# Altium schematic symbol library TI Power Management DC-DC Controller (External Switch).SchLib: 349 symbols (part 6 of 26)
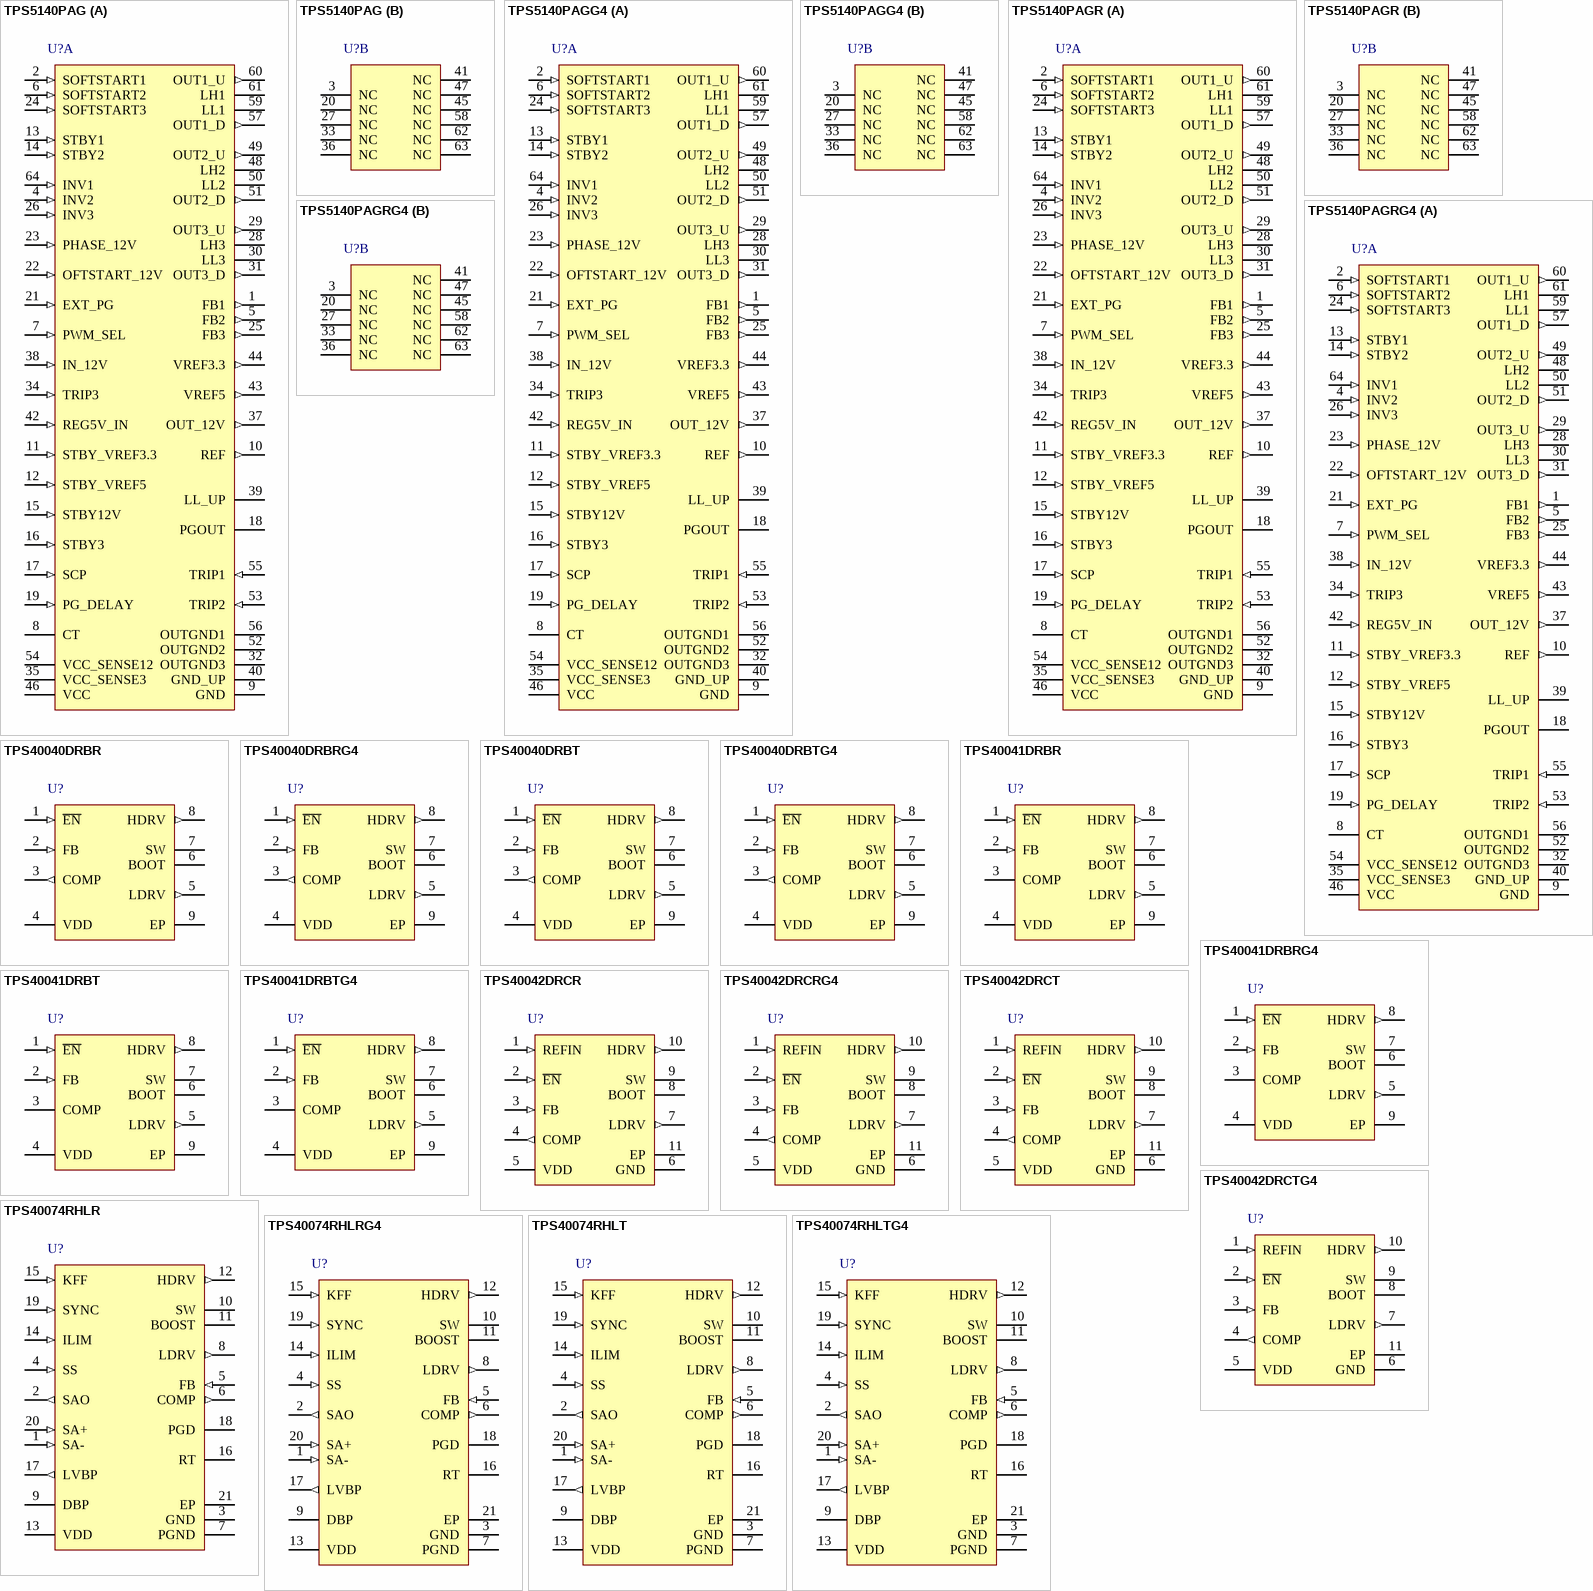
[diagram p19: symbols TPS5140PAG to TPS40074RHLTG4]

## TPS5140PAGRG4
designator U?
Quad Output (3 Buck, 1 Boost) High Efficiency DC / DC Controller for Notebook PC Power, 75 % Duty Cycle, 4.5 to 28 V, -20 to 85 degC, 64-pin TQFP (PAG), Green (RoHS & no Sb/Br); Manufacturer: Texas Instruments; PartNumber: TPS5140PAGRG4; Duty Cycle(Max)(%): 75; Iout(Max)(A): 20; Regulated Outputs(#): 4; SubFamily: Multiple-Output Switching Controller; Switching Frequency(Max)(kHz): 350; Synchronous Rectification: TRUE; Vin(Max)(V): 28; Vin(Min)(V): 4.5; Vout(Max)(V): 26; Vout(Min)(V): 1.2; DatasheetVersion: SLVS305A; PackageVersion: Dec-1996; PackageReference: PAG64; PackageDescription: 64-Pin Thin Quad Flat Pack 0.5 mm Pitch; Supplier 1: Digi-Key; Supplier Part Number 1: TPS5140PAGRG4-ND; Eco-Plan: Green (RoHS & no Sb/Br); Iout2(A): 20; Topology: Buck; Vout2(Max)(V): 26; Vout2(Min)(V): 1.2; Mounting Technology: Surface Mount; Code_JEDEC: MS-026; ComponentLink1Description: Datasheet; ComponentLink1URL: http://www.ti.com/general/docs/lit/getliterature.tsp?genericPartNumber=TPS5140&fileType=pdf; ComponentLink2Description: Package Specification; ComponentLink2URL: http://www.ti.com/litv/pdf/mtqf006a
footprint PAG64_N (Thin QFP, 64-Leads, Body 10x10mm, Pitch 0.5mm, IPC Medium Density)
footprint PAG64_L (Thin QFP, 64-Leads, Body 10x10mm, Pitch 0.5mm, IPC High Density)
footprint PAG64_M (Thin QFP, 64-Leads, Body 10x10mm, Pitch 0.5mm, IPC Low Density)
part A pins: 1 FB1 (out) "Feedback output of CH1 error amplifier.", 2 SOFTSTART1 (in) "External capacitor from SOFTSTART1 to GND for CH1 soft starts control.", 4 INV2 (in) "Inverting input of CH1 error amplifier, skip comparator and OVP2/UVP2, PG comparator.", 5 FB2 (out) "Feedback output of CH2 error amplifier.", 6 SOFTSTART2 (in) "External capacitor from SOFTSTART2 to GND for CH2 soft starts control.", 7 PWM_SEL (in) "PWM or auto PWM/SKIP modes select. L: PWM fixed  H: auto PWM/SKIP", 8 CT "External capacitor from Ct to GND used for adjusting the triangle oscillator.", 9 GND (power) "Control GND.", 10 REF (out) "1.185 V reference voltage output.", 11 STBY_VREF3.3 (in) "Stand by control for 3.3-V linear regulator.", 12 STBY_VREF5 (in) "Stand by control for 5-V linear regulator.", 13 STBY1 (in) "Stand by control for CH1.", 14 STBY2 (in) "Stand by control for CH2.", 15 STBY12V (in) "Stand by control for 12-V boost converter.", 16 STBY3 (in) "Stand by control for CH3.", 17 SCP (in) "Short circuit protection terminal. An external capacitor is connected between SCP and GND to set the SCP enable time up.", 18 PGOUT (oc) "Open drain output for power good signal.", 19 PG_DELAY (in) "Programmable delay for power good. Connect to the external capacitor for timer delay.", 21 EXT_PG (in) "External power good signal input.", 22 OFTSTART_12V (in) "External capacitor from SOFTSTART_12V to GND for CH4 (12-V boost converter) soft starts control.", 23 PHASE_12V (in) "Phase compensation for the12-V boost converter. Connect to an external capacitor. But normally it is not connected.", 24 SOFTSTART3 (in) "External capacitor from SOFTSTART3 to GND for CH3 soft starts control.", 25 FB3 (out) "Feedback output of CH3 error amplifier.", 26 INV3 (in) "Inverting input of CH1 error amplifier, skip comparator and OVP3/UVP3, PG comparator.", 28 LH3 (power) "Bootstrap capacitor connection for CH3 high side gate drive.", 29 OUT3_U (out) "Gate drive output for CH3 high side switching FETs.", 30 LL3 (power) "Bootstrap low for CH3 high side gate driving return and output current protection. Connect to the junction of the high side and low side FETs for floating drive configuration.", 31 OUT3_D (out) "Gate drive output for CH3 low side gate drive.", 32 OUTGND3 (power) "Ground for CH3 FETs drivers. It is connected to the one of current limiting comparator input.", 34 TRIP3 (in) "External resistor connection for CH3 output current protection control.", 35 VCC_SENSE3 (power) "Supply voltage input and input voltage terminal for CH3 output current sense.", 37 OUT_12V (out) "Output of PMOS switch for 12-V boost output. Connect to the output capacitor for 12-V boost output.", 38 IN_12V (in) "Input of PMOS switch for 12-V boost output. Connecting to cathode of the external Schottky diode.", 39 LL_UP (oc) "Open drain output of internal NMOS switch for 12-V boost converter. Connect between external inductor and the anode of the schottky diode.", 40 GND_UP (power) "Ground for 12-V boost converter.", 42 REG5V_IN (in) "External 5 V input.", 43 VREF5 (out) "5-V linear regulator output.", 44 VREF3.3 (out) "3.3-V linear regulator output.", 46 VCC (power) "Supply voltage input.", 48 LH2 (power) "Bootstrap capacitor connection for CH2 high side gate drive.", 49 OUT2_U (out) "Gate drive output for CH2 high side switching FETs.", 50 LL2 (power) "Bootstrap low for CH2 high side gate driving return and output current protection. Connect to the junction of the high side and low side FETs for floating drive configuration.", 51 OUT2_D (out) "Gate drive output for CH2 low side gate drive.", 52 OUTGND2 (power) "Ground for CH2 FETs drivers. It is connected to one of current limiting comparator input.", 53 TRIP2 (in) "External resistor connection for CH2 output current protection control.", 54 VCC_SENSE12 (power) "Supply voltage input and input voltage terminal for CH1/2 output current sense.", 55 TRIP1 (in) "External resistor connection for CH1 output current protection control.", 56 OUTGND1 (power) "Ground for CH1 FETs drivers. It is connected to one of the current limiting comparator input.", 57 OUT1_D (out) "Gate drive output for CH1 low side gate drive.", 59 LL1 (power) "Bootstrap low for CH1 high side gate driving return and output current protection. Connect to the junction of the high side and low side FETs for floating drive configuration.", 60 OUT1_U (out) "Gate drive output for CH1 high side switching FETs.", 61 LH1 (power) "Bootstrap capacitor connection for CH1 high side gate drive.", 64 INV1 (in) "Inverting input of CH1 error amplifier, skip comparator and OVP1/UVP1, PG comparator."
part B pins: 3 NC "No connect.", 20 NC "No connect.", 27 NC "No connect.", 33 NC "No connect.", 36 NC "No connect.", 41 NC "No connect.", 45 NC "No connect.", 47 NC "No connect.", 58 NC "No connect.", 62 NC "No connect.", 63 NC "No connect."

## TPS40040DRBR
designator U?
Low Pin Count, Low Vin Synchronous Buck DC / DC Controller, 90 % Duty Cycle, 2.25 to 5.5 V, -40 to 85 degC, 8-pin SON (DRB), Green (RoHS & no Sb/Br); Manufacturer: Texas Instruments; PartNumber: TPS40040DRBR; Duty Cycle(Max)(%): 90; Iout(Max)(A): 15; Regulated Outputs(#): 1; SubFamily: Step-Down Controller; Switching Frequency(Max)(kHz): 300; Synchronous Rectification: TRUE; Vin(Max)(V): 5.5; Vin(Min)(V): 2.25; Vout(Max)(V): 4.95; Vout(Min)(V): 0.6; DatasheetVersion: SLUS700D; PackageVersion: revK, Jun-2012; PackageReference: DRB8-2400X1650TP; PackageDescription: 8-Pin Plastic Small Outline No-Lead, 3 x 3 x 1 mm Body, 0.65 mm Pitch, Exposed Pad; Supplier 1: Digi-Key; Supplier Part Number 1: TPS40040DRBR-ND; Eco-Plan: Green (RoHS & no Sb/Br); Topology: Buck; Mounting Technology: Surface Mount; ComponentLink1Description: Datasheet; ComponentLink1URL: http://www.ti.com/general/docs/lit/getliterature.tsp?genericPartNumber=TPS40040&fileType=pdf; ComponentLink2Description: Package Specification; ComponentLink2URL: http://www.ti.com/litv/pdf/mpds118h
footprint DRB8-2400X1650TP (SON, 8-Leads, Body 3x3mm, Pitch 0.65mm, Thermal Pad 2.4x1.65mm, TI Recommended)
pins: 1 ~{EN} (in) "Active low enable input allows ON/OFF operation of the controller. If power is applied to the TPS40040/1 while the E\N\ pin is allowed to float high, the TPS40040/1 remains disabled (both external switches are held OFF). (See Datasheet)", 2 FB (in) "Inverting input of the error amplifier. In closed loop operation, the voltage at this pin is at the internal reference level of 600 mV. A series resistor divider from the converter output to ground, with the center (See Datasheet)", 3 COMP (out) "Output of the error amplifier and connection node for loop feedback components. The voltage at this pin determines the duty cycle for the PWM. Optionally, a resistor from this pin to ground is used to determine the voltage (See Datasheet)", 4 VDD (power) "Power input to the device. This pin should be locally bypassed to GND with a low ESR ceramic capacitor of 1 uF or greater.", 5 LDRV (out) "Gate drive output for the low-side synchronous rectifier (SR) N-channel MOSFET.", 6 BOOT (power) "Input (bootstrapped) supply to the high-side gate driver for PWM enabling the gate of the high side FET to be driven above the input supply rail. Connect a ceramic capacitor from this pin to SW. This capacitor is charged (See Datasheet)", 7 SW (power) "Connection to the switched node of the converter and the power return for the upper gate driver. There should be a high current return path from the source of the upper MOSFET to this pin. It is also used by the adaptive (See Datasheet)", 8 HDRV (out) "This is the gate drive output for the high side N-channel MOSFET switch for PWM. It is referenced to SW and is bootstrapped for enhancement of the high-side switch.", 9 EP (power) "Ground connection to the device. This is also the thermal pad used to conduct heat from the device. This connection serves a twofold purpose. The first is to provide an electrical ground connection for the device. The second (See Datasheet)"

## TPS40040DRBRG4
designator U?
Low Pin Count, Low Vin Synchronous Buck DC / DC Controller, 90 % Duty Cycle, 2.25 to 5.5 V, -40 to 85 degC, 8-pin SON (DRB), Green (RoHS & no Sb/Br); Manufacturer: Texas Instruments; PartNumber: TPS40040DRBRG4; Duty Cycle(Max)(%): 90; Iout(Max)(A): 15; Regulated Outputs(#): 1; SubFamily: Step-Down Controller; Switching Frequency(Max)(kHz): 300; Synchronous Rectification: TRUE; Vin(Max)(V): 5.5; Vin(Min)(V): 2.25; Vout(Max)(V): 4.95; Vout(Min)(V): 0.6; DatasheetVersion: SLUS700D; PackageVersion: revK, Jun-2012; PackageReference: DRB8-2400X1650TP; PackageDescription: 8-Pin Plastic Small Outline No-Lead, 3 x 3 x 1 mm Body, 0.65 mm Pitch, Exposed Pad; Supplier 1: Digi-Key; Supplier Part Number 1: TPS40040DRBRG4-ND; Eco-Plan: Green (RoHS & no Sb/Br); Topology: Buck; Mounting Technology: Surface Mount; ComponentLink1Description: Datasheet; ComponentLink1URL: http://www.ti.com/general/docs/lit/getliterature.tsp?genericPartNumber=TPS40040&fileType=pdf; ComponentLink2Description: Package Specification; ComponentLink2URL: http://www.ti.com/litv/pdf/mpds118h
footprint DRB8-2400X1650TP (SON, 8-Leads, Body 3x3mm, Pitch 0.65mm, Thermal Pad 2.4x1.65mm, TI Recommended)
pins: 1 ~{EN} (in) "Active low enable input allows ON/OFF operation of the controller. If power is applied to the TPS40040/1 while the E\N\ pin is allowed to float high, the TPS40040/1 remains disabled (both external switches are held OFF). (See Datasheet)", 2 FB (in) "Inverting input of the error amplifier. In closed loop operation, the voltage at this pin is at the internal reference level of 600 mV. A series resistor divider from the converter output to ground, with the center (See Datasheet)", 3 COMP (out) "Output of the error amplifier and connection node for loop feedback components. The voltage at this pin determines the duty cycle for the PWM. Optionally, a resistor from this pin to ground is used to determine the voltage (See Datasheet)", 4 VDD (power) "Power input to the device. This pin should be locally bypassed to GND with a low ESR ceramic capacitor of 1 uF or greater.", 5 LDRV (out) "Gate drive output for the low-side synchronous rectifier (SR) N-channel MOSFET.", 6 BOOT (power) "Input (bootstrapped) supply to the high-side gate driver for PWM enabling the gate of the high side FET to be driven above the input supply rail. Connect a ceramic capacitor from this pin to SW. This capacitor is charged (See Datasheet)", 7 SW (power) "Connection to the switched node of the converter and the power return for the upper gate driver. There should be a high current return path from the source of the upper MOSFET to this pin. It is also used by the adaptive (See Datasheet)", 8 HDRV (out) "This is the gate drive output for the high side N-channel MOSFET switch for PWM. It is referenced to SW and is bootstrapped for enhancement of the high-side switch.", 9 EP (power) "Ground connection to the device. This is also the thermal pad used to conduct heat from the device. This connection serves a twofold purpose. The first is to provide an electrical ground connection for the device. The second (See Datasheet)"

## TPS40040DRBT
designator U?
Low Pin Count, Low Vin Synchronous Buck DC / DC Controller, 90 % Duty Cycle, 2.25 to 5.5 V, -40 to 85 degC, 8-pin SON (DRB), Green (RoHS & no Sb/Br); Manufacturer: Texas Instruments; PartNumber: TPS40040DRBT; Duty Cycle(Max)(%): 90; Iout(Max)(A): 15; Regulated Outputs(#): 1; SubFamily: Step-Down Controller; Switching Frequency(Max)(kHz): 300; Synchronous Rectification: TRUE; Vin(Max)(V): 5.5; Vin(Min)(V): 2.25; Vout(Max)(V): 4.95; Vout(Min)(V): 0.6; DatasheetVersion: SLUS700D; PackageVersion: revK, Jun-2012; PackageReference: DRB8-2400X1650TP; PackageDescription: 8-Pin Plastic Small Outline No-Lead, 3 x 3 x 1 mm Body, 0.65 mm Pitch, Exposed Pad; Supplier 1: Digi-Key; Supplier Part Number 1: 296-19638-2-ND; Eco-Plan: Green (RoHS & no Sb/Br); Topology: Buck; Mounting Technology: Surface Mount; ComponentLink1Description: Datasheet; ComponentLink1URL: http://www.ti.com/general/docs/lit/getliterature.tsp?genericPartNumber=TPS40040&fileType=pdf; ComponentLink2Description: Package Specification; ComponentLink2URL: http://www.ti.com/litv/pdf/mpds118h
footprint DRB8-2400X1650TP (SON, 8-Leads, Body 3x3mm, Pitch 0.65mm, Thermal Pad 2.4x1.65mm, TI Recommended)
pins: 1 ~{EN} (in) "Active low enable input allows ON/OFF operation of the controller. If power is applied to the TPS40040/1 while the E\N\ pin is allowed to float high, the TPS40040/1 remains disabled (both external switches are held OFF). (See Datasheet)", 2 FB (in) "Inverting input of the error amplifier. In closed loop operation, the voltage at this pin is at the internal reference level of 600 mV. A series resistor divider from the converter output to ground, with the center (See Datasheet)", 3 COMP (out) "Output of the error amplifier and connection node for loop feedback components. The voltage at this pin determines the duty cycle for the PWM. Optionally, a resistor from this pin to ground is used to determine the voltage (See Datasheet)", 4 VDD (power) "Power input to the device. This pin should be locally bypassed to GND with a low ESR ceramic capacitor of 1 uF or greater.", 5 LDRV (out) "Gate drive output for the low-side synchronous rectifier (SR) N-channel MOSFET.", 6 BOOT (power) "Input (bootstrapped) supply to the high-side gate driver for PWM enabling the gate of the high side FET to be driven above the input supply rail. Connect a ceramic capacitor from this pin to SW. This capacitor is charged (See Datasheet)", 7 SW (power) "Connection to the switched node of the converter and the power return for the upper gate driver. There should be a high current return path from the source of the upper MOSFET to this pin. It is also used by the adaptive (See Datasheet)", 8 HDRV (out) "This is the gate drive output for the high side N-channel MOSFET switch for PWM. It is referenced to SW and is bootstrapped for enhancement of the high-side switch.", 9 EP (power) "Ground connection to the device. This is also the thermal pad used to conduct heat from the device. This connection serves a twofold purpose. The first is to provide an electrical ground connection for the device. The second (See Datasheet)"

## TPS40040DRBTG4
designator U?
Low Pin Count, Low Vin Synchronous Buck DC / DC Controller, 90 % Duty Cycle, 2.25 to 5.5 V, -40 to 85 degC, 8-pin SON (DRB), Green (RoHS & no Sb/Br); Manufacturer: Texas Instruments; PartNumber: TPS40040DRBTG4; Duty Cycle(Max)(%): 90; Iout(Max)(A): 15; Regulated Outputs(#): 1; SubFamily: Step-Down Controller; Switching Frequency(Max)(kHz): 300; Synchronous Rectification: TRUE; Vin(Max)(V): 5.5; Vin(Min)(V): 2.25; Vout(Max)(V): 4.95; Vout(Min)(V): 0.6; DatasheetVersion: SLUS700D; PackageVersion: revK, Jun-2012; PackageReference: DRB8-2400X1650TP; PackageDescription: 8-Pin Plastic Small Outline No-Lead, 3 x 3 x 1 mm Body, 0.65 mm Pitch, Exposed Pad; Supplier 1: Digi-Key; Supplier Part Number 1: TPS40040DRBTG4-ND; Eco-Plan: Green (RoHS & no Sb/Br); Topology: Buck; Mounting Technology: Surface Mount; ComponentLink1Description: Datasheet; ComponentLink1URL: http://www.ti.com/general/docs/lit/getliterature.tsp?genericPartNumber=TPS40040&fileType=pdf; ComponentLink2Description: Package Specification; ComponentLink2URL: http://www.ti.com/litv/pdf/mpds118h
footprint DRB8-2400X1650TP (SON, 8-Leads, Body 3x3mm, Pitch 0.65mm, Thermal Pad 2.4x1.65mm, TI Recommended)
pins: 1 ~{EN} (in) "Active low enable input allows ON/OFF operation of the controller. If power is applied to the TPS40040/1 while the E\N\ pin is allowed to float high, the TPS40040/1 remains disabled (both external switches are held OFF). (See Datasheet)", 2 FB (in) "Inverting input of the error amplifier. In closed loop operation, the voltage at this pin is at the internal reference level of 600 mV. A series resistor divider from the converter output to ground, with the center (See Datasheet)", 3 COMP (out) "Output of the error amplifier and connection node for loop feedback components. The voltage at this pin determines the duty cycle for the PWM. Optionally, a resistor from this pin to ground is used to determine the voltage (See Datasheet)", 4 VDD (power) "Power input to the device. This pin should be locally bypassed to GND with a low ESR ceramic capacitor of 1 uF or greater.", 5 LDRV (out) "Gate drive output for the low-side synchronous rectifier (SR) N-channel MOSFET.", 6 BOOT (power) "Input (bootstrapped) supply to the high-side gate driver for PWM enabling the gate of the high side FET to be driven above the input supply rail. Connect a ceramic capacitor from this pin to SW. This capacitor is charged (See Datasheet)", 7 SW (power) "Connection to the switched node of the converter and the power return for the upper gate driver. There should be a high current return path from the source of the upper MOSFET to this pin. It is also used by the adaptive (See Datasheet)", 8 HDRV (out) "This is the gate drive output for the high side N-channel MOSFET switch for PWM. It is referenced to SW and is bootstrapped for enhancement of the high-side switch.", 9 EP (power) "Ground connection to the device. This is also the thermal pad used to conduct heat from the device. This connection serves a twofold purpose. The first is to provide an electrical ground connection for the device. The second (See Datasheet)"

## TPS40041DRBR
designator U?
Low Pin Count, Low Vin Synchronous Buck DC / DC Controller, 88 % Duty Cycle, 2.25 to 5.5 V, -40 to 85 degC, 8-pin SON (DRB), Green (RoHS & no Sb/Br); Manufacturer: Texas Instruments; PartNumber: TPS40041DRBR; Duty Cycle(Max)(%): 88; Iout(Max)(A): 15; Regulated Outputs(#): 1; SubFamily: Step-Down Controller; Switching Frequency(Max)(kHz): 600; Synchronous Rectification: TRUE; Vin(Max)(V): 5.5; Vin(Min)(V): 2.25; Vout(Max)(V): 4.84; Vout(Min)(V): 0.6; DatasheetVersion: SLUS700D; PackageVersion: revK, Jun-2012; PackageReference: DRB8-2400X1650TP; PackageDescription: 8-Pin Plastic Small Outline No-Lead, 3 x 3 x 1 mm Body, 0.65 mm Pitch, Exposed Pad; Supplier 1: Digi-Key; Supplier Part Number 1: 296-19639-2-ND; Eco-Plan: Green (RoHS & no Sb/Br); Topology: Buck; Mounting Technology: Surface Mount; ComponentLink1Description: Datasheet; ComponentLink1URL: http://www.ti.com/general/docs/lit/getliterature.tsp?genericPartNumber=TPS40041&fileType=pdf; ComponentLink2Description: Package Specification; ComponentLink2URL: http://www.ti.com/litv/pdf/mpds118h
footprint DRB8-2400X1650TP (SON, 8-Leads, Body 3x3mm, Pitch 0.65mm, Thermal Pad 2.4x1.65mm, TI Recommended)
pins: 1 ~{EN} (in) "Active low enable input allows ON/OFF operation of the controller. If power is applied to the TPS40040/1 while the E\N\ pin is allowed to float high, the TPS40040/1 remains disabled (both external switches are held OFF). (See Datasheet)", 2 FB (in) "Inverting input of the error amplifier. In closed loop operation, the voltage at this pin is at the internal reference level of 600 mV. A series resistor divider from the converter output to ground, with the center (See Datasheet)", 3 COMP "Output of the error amplifier and connection node for loop feedback components. The voltage at this pin determines the duty cycle for the PWM. Optionally, a resistor from this pin to ground is used to determine the voltage (See Datasheet)", 4 VDD (power) "Power input to the device. This pin should be locally bypassed to GND with a low ESR ceramic capacitor of 1 mF or greater.", 5 LDRV (out) "Gate drive output for the low-side synchronous rectifier (SR) N-channel MOSFET.", 6 BOOT (power) "Input (bootstrapped) supply to the high-side gate driver for PWM enabling the gate of the high side FET to be driven above the input supply rail. Connect a ceramic capacitor from this pin to SW. This capacitor is charged (See Datasheet)", 7 SW (power) "Connection to the switched node of the converter and the power return for the upper gate driver. There should be a high current return path from the source of the upper MOSFET to this pin. It is also used by the adaptive (See Datasheet)", 8 HDRV (out) "This is the gate drive output for the high side N-channel MOSFET switch for PWM. It is referenced to SW and is bootstrapped for enhancement of the high-side switch.", 9 EP (power) "Ground connection to the device. This is also the thermal pad used to conduct heat from the device. This connection serves a twofold purpose. The first is to provide an electrical ground GND Thermal Pad connection for the (See Datasheet)"

## TPS40041DRBRG4
designator U?
Low Pin Count, Low Vin Synchronous Buck DC / DC Controller, 88 % Duty Cycle, 2.25 to 5.5 V, -40 to 85 degC, 8-pin SON (DRB), Green (RoHS & no Sb/Br); Manufacturer: Texas Instruments; PartNumber: TPS40041DRBRG4; Duty Cycle(Max)(%): 88; Iout(Max)(A): 15; Regulated Outputs(#): 1; SubFamily: Step-Down Controller; Switching Frequency(Max)(kHz): 600; Synchronous Rectification: TRUE; Vin(Max)(V): 5.5; Vin(Min)(V): 2.25; Vout(Max)(V): 4.84; Vout(Min)(V): 0.6; DatasheetVersion: SLUS700D; PackageVersion: revK, Jun-2012; PackageReference: DRB8-2400X1650TP; PackageDescription: 8-Pin Plastic Small Outline No-Lead, 3 x 3 x 1 mm Body, 0.65 mm Pitch, Exposed Pad; Supplier 1: Digi-Key; Supplier Part Number 1: TPS40041DRBRG4-ND; Eco-Plan: Green (RoHS & no Sb/Br); Topology: Buck; Mounting Technology: Surface Mount; ComponentLink1Description: Datasheet; ComponentLink1URL: http://www.ti.com/general/docs/lit/getliterature.tsp?genericPartNumber=TPS40041&fileType=pdf; ComponentLink2Description: Package Specification; ComponentLink2URL: http://www.ti.com/litv/pdf/mpds118h
footprint DRB8-2400X1650TP (SON, 8-Leads, Body 3x3mm, Pitch 0.65mm, Thermal Pad 2.4x1.65mm, TI Recommended)
pins: 1 ~{EN} (in) "Active low enable input allows ON/OFF operation of the controller. If power is applied to the TPS40040/1 while the E\N\ pin is allowed to float high, the TPS40040/1 remains disabled (both external switches are held OFF). (See Datasheet)", 2 FB (in) "Inverting input of the error amplifier. In closed loop operation, the voltage at this pin is at the internal reference level of 600 mV. A series resistor divider from the converter output to ground, with the center (See Datasheet)", 3 COMP "Output of the error amplifier and connection node for loop feedback components. The voltage at this pin determines the duty cycle for the PWM. Optionally, a resistor from this pin to ground is used to determine the voltage (See Datasheet)", 4 VDD (power) "Power input to the device. This pin should be locally bypassed to GND with a low ESR ceramic capacitor of 1 mF or greater.", 5 LDRV (out) "Gate drive output for the low-side synchronous rectifier (SR) N-channel MOSFET.", 6 BOOT (power) "Input (bootstrapped) supply to the high-side gate driver for PWM enabling the gate of the high side FET to be driven above the input supply rail. Connect a ceramic capacitor from this pin to SW. This capacitor is charged (See Datasheet)", 7 SW (power) "Connection to the switched node of the converter and the power return for the upper gate driver. There should be a high current return path from the source of the upper MOSFET to this pin. It is also used by the adaptive (See Datasheet)", 8 HDRV (out) "This is the gate drive output for the high side N-channel MOSFET switch for PWM. It is referenced to SW and is bootstrapped for enhancement of the high-side switch.", 9 EP (power) "Ground connection to the device. This is also the thermal pad used to conduct heat from the device. This connection serves a twofold purpose. The first is to provide an electrical ground GND Thermal Pad connection for the (See Datasheet)"

## TPS40041DRBT
designator U?
Low Pin Count, Low Vin Synchronous Buck DC / DC Controller, 88 % Duty Cycle, 2.25 to 5.5 V, -40 to 85 degC, 8-pin SON (DRB), Green (RoHS & no Sb/Br); Manufacturer: Texas Instruments; PartNumber: TPS40041DRBT; Duty Cycle(Max)(%): 88; Iout(Max)(A): 15; Regulated Outputs(#): 1; SubFamily: Step-Down Controller; Switching Frequency(Max)(kHz): 600; Synchronous Rectification: TRUE; Vin(Max)(V): 5.5; Vin(Min)(V): 2.25; Vout(Max)(V): 4.84; Vout(Min)(V): 0.6; DatasheetVersion: SLUS700D; PackageVersion: revK, Jun-2012; PackageReference: DRB8-2400X1650TP; PackageDescription: 8-Pin Plastic Small Outline No-Lead, 3 x 3 x 1 mm Body, 0.65 mm Pitch, Exposed Pad; Supplier 1: Digi-Key; Supplier Part Number 1: 296-26960-2-ND; Eco-Plan: Green (RoHS & no Sb/Br); Topology: Buck; Mounting Technology: Surface Mount; ComponentLink1Description: Datasheet; ComponentLink1URL: http://www.ti.com/general/docs/lit/getliterature.tsp?genericPartNumber=TPS40041&fileType=pdf; ComponentLink2Description: Package Specification; ComponentLink2URL: http://www.ti.com/litv/pdf/mpds118h
footprint DRB8-2400X1650TP (SON, 8-Leads, Body 3x3mm, Pitch 0.65mm, Thermal Pad 2.4x1.65mm, TI Recommended)
pins: 1 ~{EN} (in) "Active low enable input allows ON/OFF operation of the controller. If power is applied to the TPS40040/1 while the E\N\ pin is allowed to float high, the TPS40040/1 remains disabled (both external switches are held OFF). (See Datasheet)", 2 FB (in) "Inverting input of the error amplifier. In closed loop operation, the voltage at this pin is at the internal reference level of 600 mV. A series resistor divider from the converter output to ground, with the center (See Datasheet)", 3 COMP "Output of the error amplifier and connection node for loop feedback components. The voltage at this pin determines the duty cycle for the PWM. Optionally, a resistor from this pin to ground is used to determine the voltage (See Datasheet)", 4 VDD (power) "Power input to the device. This pin should be locally bypassed to GND with a low ESR ceramic capacitor of 1 mF or greater.", 5 LDRV (out) "Gate drive output for the low-side synchronous rectifier (SR) N-channel MOSFET.", 6 BOOT (power) "Input (bootstrapped) supply to the high-side gate driver for PWM enabling the gate of the high side FET to be driven above the input supply rail. Connect a ceramic capacitor from this pin to SW. This capacitor is charged (See Datasheet)", 7 SW (power) "Connection to the switched node of the converter and the power return for the upper gate driver. There should be a high current return path from the source of the upper MOSFET to this pin. It is also used by the adaptive (See Datasheet)", 8 HDRV (out) "This is the gate drive output for the high side N-channel MOSFET switch for PWM. It is referenced to SW and is bootstrapped for enhancement of the high-side switch.", 9 EP (power) "Ground connection to the device. This is also the thermal pad used to conduct heat from the device. This connection serves a twofold purpose. The first is to provide an electrical ground GND Thermal Pad connection for the (See Datasheet)"

## TPS40041DRBTG4
designator U?
Low Pin Count, Low Vin Synchronous Buck DC / DC Controller, 88 % Duty Cycle, 2.25 to 5.5 V, -40 to 85 degC, 8-pin SON (DRB), Green (RoHS & no Sb/Br); Manufacturer: Texas Instruments; PartNumber: TPS40041DRBTG4; Duty Cycle(Max)(%): 88; Iout(Max)(A): 15; Regulated Outputs(#): 1; SubFamily: Step-Down Controller; Switching Frequency(Max)(kHz): 600; Synchronous Rectification: TRUE; Vin(Max)(V): 5.5; Vin(Min)(V): 2.25; Vout(Max)(V): 4.84; Vout(Min)(V): 0.6; DatasheetVersion: SLUS700D; PackageVersion: revK, Jun-2012; PackageReference: DRB8-2400X1650TP; PackageDescription: 8-Pin Plastic Small Outline No-Lead, 3 x 3 x 1 mm Body, 0.65 mm Pitch, Exposed Pad; Supplier 1: Digi-Key; Supplier Part Number 1: TPS40041DRBTG4-ND; Eco-Plan: Green (RoHS & no Sb/Br); Topology: Buck; Mounting Technology: Surface Mount; ComponentLink1Description: Datasheet; ComponentLink1URL: http://www.ti.com/general/docs/lit/getliterature.tsp?genericPartNumber=TPS40041&fileType=pdf; ComponentLink2Description: Package Specification; ComponentLink2URL: http://www.ti.com/litv/pdf/mpds118h
footprint DRB8-2400X1650TP (SON, 8-Leads, Body 3x3mm, Pitch 0.65mm, Thermal Pad 2.4x1.65mm, TI Recommended)
pins: 1 ~{EN} (in) "Active low enable input allows ON/OFF operation of the controller. If power is applied to the TPS40040/1 while the E\N\ pin is allowed to float high, the TPS40040/1 remains disabled (both external switches are held OFF). (See Datasheet)", 2 FB (in) "Inverting input of the error amplifier. In closed loop operation, the voltage at this pin is at the internal reference level of 600 mV. A series resistor divider from the converter output to ground, with the center (See Datasheet)", 3 COMP "Output of the error amplifier and connection node for loop feedback components. The voltage at this pin determines the duty cycle for the PWM. Optionally, a resistor from this pin to ground is used to determine the voltage (See Datasheet)", 4 VDD (power) "Power input to the device. This pin should be locally bypassed to GND with a low ESR ceramic capacitor of 1 mF or greater.", 5 LDRV (out) "Gate drive output for the low-side synchronous rectifier (SR) N-channel MOSFET.", 6 BOOT (power) "Input (bootstrapped) supply to the high-side gate driver for PWM enabling the gate of the high side FET to be driven above the input supply rail. Connect a ceramic capacitor from this pin to SW. This capacitor is charged (See Datasheet)", 7 SW (power) "Connection to the switched node of the converter and the power return for the upper gate driver. There should be a high current return path from the source of the upper MOSFET to this pin. It is also used by the adaptive (See Datasheet)", 8 HDRV (out) "This is the gate drive output for the high side N-channel MOSFET switch for PWM. It is referenced to SW and is bootstrapped for enhancement of the high-side switch.", 9 EP (power) "Ground connection to the device. This is also the thermal pad used to conduct heat from the device. This connection serves a twofold purpose. The first is to provide an electrical ground GND Thermal Pad connection for the (See Datasheet)"

## TPS40042DRCR
designator U?
Low Pin Count, Low Vin Synchronous Buck DCDC Controller with Tracking, 90 % Duty Cycle, 3 to 5.5 V, -40 to 85 degC, 10-pin SON (DRC), Green (RoHS & no Sb/Br); Manufacturer: Texas Instruments; PartNumber: TPS40042DRCR; Duty Cycle(Max)(%): 90; Iout(Max)(A): 15; Regulated Outputs(#): 1; SubFamily: Step-Down Controller; Switching Frequency(Max)(kHz): 600; Synchronous Rectification: TRUE; Vin(Max)(V): 5.5; Vin(Min)(V): 3; Vout(Max)(V): 4.95; Vout(Min)(V): 0.6; DatasheetVersion: SLUS777; PackageVersion: revL, Sep-2011; PackageReference: DRC10-2400X1650TP; PackageDescription: 10-Pin Plastic Small Outline No-Lead, 3 x 3 x 1 mm Body, 0.5 mm Pitch, Exposed Pad; Supplier 1: Digi-Key; Supplier Part Number 1: TPS40042DRCR-ND; Eco-Plan: Green (RoHS & no Sb/Br); Topology: Buck; Mounting Technology: Surface Mount; ComponentLink1Description: Datasheet; ComponentLink1URL: http://www.ti.com/general/docs/lit/getliterature.tsp?genericPartNumber=TPS40042&fileType=pdf; ComponentLink2Description: Package Specification; ComponentLink2URL: http://www.ti.com/litv/pdf/mpds117k
footprint DRC10-2400X1650TP (SON, 10-Leads, Body 3x3mm, Pitch 0.5mm, Thermal Pad 2.4x1.65mm, TI Recommended)
pins: 1 REFIN (in) "Non-inverting imput to the error amplifier. A precision voltage must be applied to this pin before the TPS40042 is enabled. Since this input is connected directly to the non-inverting pin of the error amplifier, the quality (See Datasheet)", 2 ~{EN} (in) "Active low enable input allows ON/OFF operation of the controller. If power is applied to the TPS40042 while the EN pin is allowed to float high, the TPS40042 remains disabled (both external switches are held OFF). Only when (See Datasheet)", 3 FB (in) "Inverting input of the error amplifier. In closed loop operation, the voltage at this pin is at the same potential as the REFIN pin. A series resistor divider from the converter output to ground, with the center connection (See Datasheet)", 4 COMP (out) "Output of the error amplifier and connection node for loop feedback components. The voltage at this pin determines the duty cycle for the PWM. Optionally, a resistor from this pin to ground is used to determine the voltage (See Datasheet)", 5 VDD (power) "Power input to the device. This pin should be locally bypassed to GND with a low ESR ceramic capacitor of 1 µF or greater.", 6 GND (power) "Electrical ground connection for the device.", 7 LDRV (out) "Gate drive output for the low-side synchronous rectifier (SR) N-channel MOSFET.", 8 BOOT (power) "Input (bootstrapped) supply to the high-side gate driver for PWM enabling the gate of the high side FET to be driven above the input supply rail. Connect a ceramic capacitor from this pin to SW. This capacitor is charged (See Datasheet)", 9 SW (power) "Connection to the switched node of the converter and the power return for the upper gate driver. There should be a high current return path from the source of the upper MOSFET to this pin. It is also used by the adaptive (See Datasheet)", 10 HDRV (out) "This is the gate drive output for the high side N-channel MOSFET switch for PWM. It is referenced to SW and is bootstrapped for enhancement of the high-side switch.", 11 EP (power) "Thermal pad used to conduct heat from the device. This pad should be tied externally to a ground plane. See Application Section for PC board layout information."

## TPS40042DRCRG4
designator U?
Low Pin Count, Low Vin Synchronous Buck DCDC Controller with Tracking, 90 % Duty Cycle, 3 to 5.5 V, -40 to 85 degC, 10-pin SON (DRC), Green (RoHS & no Sb/Br); Manufacturer: Texas Instruments; PartNumber: TPS40042DRCRG4; Duty Cycle(Max)(%): 90; Iout(Max)(A): 15; Regulated Outputs(#): 1; SubFamily: Step-Down Controller; Switching Frequency(Max)(kHz): 600; Synchronous Rectification: TRUE; Vin(Max)(V): 5.5; Vin(Min)(V): 3; Vout(Max)(V): 4.95; Vout(Min)(V): 0.6; DatasheetVersion: SLUS777; PackageVersion: revL, Sep-2011; PackageReference: DRC10-2400X1650TP; PackageDescription: 10-Pin Plastic Small Outline No-Lead, 3 x 3 x 1 mm Body, 0.5 mm Pitch, Exposed Pad; Supplier 1: Digi-Key; Supplier Part Number 1: TPS40042DRCRG4-ND; Eco-Plan: Green (RoHS & no Sb/Br); Topology: Buck; Mounting Technology: Surface Mount; ComponentLink1Description: Datasheet; ComponentLink1URL: http://www.ti.com/general/docs/lit/getliterature.tsp?genericPartNumber=TPS40042&fileType=pdf; ComponentLink2Description: Package Specification; ComponentLink2URL: http://www.ti.com/litv/pdf/mpds117k
footprint DRC10-2400X1650TP (SON, 10-Leads, Body 3x3mm, Pitch 0.5mm, Thermal Pad 2.4x1.65mm, TI Recommended)
pins: 1 REFIN (in) "Non-inverting imput to the error amplifier. A precision voltage must be applied to this pin before the TPS40042 is enabled. Since this input is connected directly to the non-inverting pin of the error amplifier, the quality (See Datasheet)", 2 ~{EN} (in) "Active low enable input allows ON/OFF operation of the controller. If power is applied to the TPS40042 while the EN pin is allowed to float high, the TPS40042 remains disabled (both external switches are held OFF). Only when (See Datasheet)", 3 FB (in) "Inverting input of the error amplifier. In closed loop operation, the voltage at this pin is at the same potential as the REFIN pin. A series resistor divider from the converter output to ground, with the center connection (See Datasheet)", 4 COMP (out) "Output of the error amplifier and connection node for loop feedback components. The voltage at this pin determines the duty cycle for the PWM. Optionally, a resistor from this pin to ground is used to determine the voltage (See Datasheet)", 5 VDD (power) "Power input to the device. This pin should be locally bypassed to GND with a low ESR ceramic capacitor of 1 µF or greater.", 6 GND (power) "Electrical ground connection for the device.", 7 LDRV (out) "Gate drive output for the low-side synchronous rectifier (SR) N-channel MOSFET.", 8 BOOT (power) "Input (bootstrapped) supply to the high-side gate driver for PWM enabling the gate of the high side FET to be driven above the input supply rail. Connect a ceramic capacitor from this pin to SW. This capacitor is charged (See Datasheet)", 9 SW (power) "Connection to the switched node of the converter and the power return for the upper gate driver. There should be a high current return path from the source of the upper MOSFET to this pin. It is also used by the adaptive (See Datasheet)", 10 HDRV (out) "This is the gate drive output for the high side N-channel MOSFET switch for PWM. It is referenced to SW and is bootstrapped for enhancement of the high-side switch.", 11 EP (power) "Thermal pad used to conduct heat from the device. This pad should be tied externally to a ground plane. See Application Section for PC board layout information."

## TPS40042DRCT
designator U?
Low Pin Count, Low Vin Synchronous Buck DCDC Controller with Tracking, 90 % Duty Cycle, 3 to 5.5 V, -40 to 85 degC, 10-pin SON (DRC), Green (RoHS & no Sb/Br); Manufacturer: Texas Instruments; PartNumber: TPS40042DRCT; Duty Cycle(Max)(%): 90; Iout(Max)(A): 15; Regulated Outputs(#): 1; SubFamily: Step-Down Controller; Switching Frequency(Max)(kHz): 600; Synchronous Rectification: TRUE; Vin(Max)(V): 5.5; Vin(Min)(V): 3; Vout(Max)(V): 4.95; Vout(Min)(V): 0.6; DatasheetVersion: SLUS777; PackageVersion: revL, Sep-2011; PackageReference: DRC10-2400X1650TP; PackageDescription: 10-Pin Plastic Small Outline No-Lead, 3 x 3 x 1 mm Body, 0.5 mm Pitch, Exposed Pad; Supplier 1: Digi-Key; Supplier Part Number 1: 296-22978-2-ND; Eco-Plan: Green (RoHS & no Sb/Br); Topology: Buck; Mounting Technology: Surface Mount; ComponentLink1Description: Datasheet; ComponentLink1URL: http://www.ti.com/general/docs/lit/getliterature.tsp?genericPartNumber=TPS40042&fileType=pdf; ComponentLink2Description: Package Specification; ComponentLink2URL: http://www.ti.com/litv/pdf/mpds117k
footprint DRC10-2400X1650TP (SON, 10-Leads, Body 3x3mm, Pitch 0.5mm, Thermal Pad 2.4x1.65mm, TI Recommended)
pins: 1 REFIN (in) "Non-inverting imput to the error amplifier. A precision voltage must be applied to this pin before the TPS40042 is enabled. Since this input is connected directly to the non-inverting pin of the error amplifier, the quality (See Datasheet)", 2 ~{EN} (in) "Active low enable input allows ON/OFF operation of the controller. If power is applied to the TPS40042 while the EN pin is allowed to float high, the TPS40042 remains disabled (both external switches are held OFF). Only when (See Datasheet)", 3 FB (in) "Inverting input of the error amplifier. In closed loop operation, the voltage at this pin is at the same potential as the REFIN pin. A series resistor divider from the converter output to ground, with the center connection (See Datasheet)", 4 COMP (out) "Output of the error amplifier and connection node for loop feedback components. The voltage at this pin determines the duty cycle for the PWM. Optionally, a resistor from this pin to ground is used to determine the voltage (See Datasheet)", 5 VDD (power) "Power input to the device. This pin should be locally bypassed to GND with a low ESR ceramic capacitor of 1 µF or greater.", 6 GND (power) "Electrical ground connection for the device.", 7 LDRV (out) "Gate drive output for the low-side synchronous rectifier (SR) N-channel MOSFET.", 8 BOOT (power) "Input (bootstrapped) supply to the high-side gate driver for PWM enabling the gate of the high side FET to be driven above the input supply rail. Connect a ceramic capacitor from this pin to SW. This capacitor is charged (See Datasheet)", 9 SW (power) "Connection to the switched node of the converter and the power return for the upper gate driver. There should be a high current return path from the source of the upper MOSFET to this pin. It is also used by the adaptive (See Datasheet)", 10 HDRV (out) "This is the gate drive output for the high side N-channel MOSFET switch for PWM. It is referenced to SW and is bootstrapped for enhancement of the high-side switch.", 11 EP (power) "Thermal pad used to conduct heat from the device. This pad should be tied externally to a ground plane. See Application Section for PC board layout information."

## TPS40042DRCTG4
designator U?
Low Pin Count, Low Vin Synchronous Buck DCDC Controller with Tracking, 90 % Duty Cycle, 3 to 5.5 V, -40 to 85 degC, 10-pin SON (DRC), Green (RoHS & no Sb/Br); Manufacturer: Texas Instruments; PartNumber: TPS40042DRCTG4; Duty Cycle(Max)(%): 90; Iout(Max)(A): 15; Regulated Outputs(#): 1; SubFamily: Step-Down Controller; Switching Frequency(Max)(kHz): 600; Synchronous Rectification: TRUE; Vin(Max)(V): 5.5; Vin(Min)(V): 3; Vout(Max)(V): 4.95; Vout(Min)(V): 0.6; DatasheetVersion: SLUS777; PackageVersion: revL, Sep-2011; PackageReference: DRC10-2400X1650TP; PackageDescription: 10-Pin Plastic Small Outline No-Lead, 3 x 3 x 1 mm Body, 0.5 mm Pitch, Exposed Pad; Supplier 1: Digi-Key; Supplier Part Number 1: TPS40042DRCTG4-ND; Eco-Plan: Green (RoHS & no Sb/Br); Topology: Buck; Mounting Technology: Surface Mount; ComponentLink1Description: Datasheet; ComponentLink1URL: http://www.ti.com/general/docs/lit/getliterature.tsp?genericPartNumber=TPS40042&fileType=pdf; ComponentLink2Description: Package Specification; ComponentLink2URL: http://www.ti.com/litv/pdf/mpds117k
footprint DRC10-2400X1650TP (SON, 10-Leads, Body 3x3mm, Pitch 0.5mm, Thermal Pad 2.4x1.65mm, TI Recommended)
pins: 1 REFIN (in) "Non-inverting imput to the error amplifier. A precision voltage must be applied to this pin before the TPS40042 is enabled. Since this input is connected directly to the non-inverting pin of the error amplifier, the quality (See Datasheet)", 2 ~{EN} (in) "Active low enable input allows ON/OFF operation of the controller. If power is applied to the TPS40042 while the EN pin is allowed to float high, the TPS40042 remains disabled (both external switches are held OFF). Only when (See Datasheet)", 3 FB (in) "Inverting input of the error amplifier. In closed loop operation, the voltage at this pin is at the same potential as the REFIN pin. A series resistor divider from the converter output to ground, with the center connection (See Datasheet)", 4 COMP (out) "Output of the error amplifier and connection node for loop feedback components. The voltage at this pin determines the duty cycle for the PWM. Optionally, a resistor from this pin to ground is used to determine the voltage (See Datasheet)", 5 VDD (power) "Power input to the device. This pin should be locally bypassed to GND with a low ESR ceramic capacitor of 1 µF or greater.", 6 GND (power) "Electrical ground connection for the device.", 7 LDRV (out) "Gate drive output for the low-side synchronous rectifier (SR) N-channel MOSFET.", 8 BOOT (power) "Input (bootstrapped) supply to the high-side gate driver for PWM enabling the gate of the high side FET to be driven above the input supply rail. Connect a ceramic capacitor from this pin to SW. This capacitor is charged (See Datasheet)", 9 SW (power) "Connection to the switched node of the converter and the power return for the upper gate driver. There should be a high current return path from the source of the upper MOSFET to this pin. It is also used by the adaptive (See Datasheet)", 10 HDRV (out) "This is the gate drive output for the high side N-channel MOSFET switch for PWM. It is referenced to SW and is bootstrapped for enhancement of the high-side switch.", 11 EP (power) "Thermal pad used to conduct heat from the device. This pad should be tied externally to a ground plane. See Application Section for PC board layout information."

## TPS40074RHLR
designator U?
Mid Range Input Synchronous Buck Controller with Voltage Feed-Forward, 84 % Duty Cycle, 4.5 to 28 V, -40 to 85 degC, 20-pin QFN (RHL), Green (RoHS & no Sb/Br); Manufacturer: Texas Instruments; PartNumber: TPS40074RHLR; Duty Cycle(Max)(%): 84; Iout(Max)(A): 20; Regulated Outputs(#): 1; SubFamily: Step-Down Controller; Switching Frequency(Max)(kHz): 1000; Synchronous Rectification: TRUE; Vin(Max)(V): 28; Vin(Min)(V): 4.5; Vout(Max)(V): 23; Vout(Min)(V): 0.7; DatasheetVersion: SLUS617B; PackageVersion: revJ, Dec-2011; PackageReference: RHL20-3050X2050TP; PackageDescription: 20-Leads Plastic Quad Flatpack No-Lead, 4.5 x 3.5 x 0.9 mm Body, 0.5 mm Pitch, Exposed Pad; Supplier 1: Digi-Key; Supplier Part Number 1: 296-18670-2-ND; Eco-Plan: Green (RoHS & no Sb/Br); Topology: Buck; Mounting Technology: Surface Mount; ComponentLink1Description: Datasheet; ComponentLink1URL: http://www.ti.com/general/docs/lit/getliterature.tsp?genericPartNumber=TPS40074&fileType=pdf; ComponentLink2Description: Package Specification; ComponentLink2URL: http://www.ti.com/litv/pdf/mpqf155i
footprint RHL20-3050X2050TP (QFN, 20-Leads, Body 4.5x3.5mm, Pitch 0.5mm, Thermal Pad 3.05x2.05mm, TI Recommended)
pins: 1 SA- (in) "Inverting input of the remote voltage sense amplifier.", 2 SAO (out) "Output of the remote voltage sense amplifier.", 3 GND (power) "Ground reference for the device.", 4 SS (in) "Soft-start programming pin. A capacitor connected from this pin to GND programs the soft-start time. The capacitor is charged with an internal current source of 12 uA. The resulting voltage ramp on the SS pin is used as a (See Datasheet)", 5 FB (in) "Inverting input to the error amplifier. In normal operation the voltage on this pin is equal to the internal reference voltage, 0.7 V.", 6 COMP (out) "Output of the error amplifier, input to the PWM comparator. A feedback network is connected from this pin to the FB pin to compensate the overall loop. This pin is internally clamped to a 3.4-V maximum output drive (See Datasheet)", 7 PGND (power) "Power ground reference for the device. There should be a low-impedance path from this pin to the source(s) of the lower MOSFET(s).", 8 LDRV (out) "Gate drive for the N-channel synchronous rectifier. This pin switches from DBP (MOSFET on) to PGND (MOSFET off). For proper operation, the total gate charge of the MOSFET connected to LDRV should be less than 50nC.", 9 DBP (power) "8-V regulator output used for the gate drive of the N-channel synchronous rectifier and as the supply for charging the bootstrap capacitor. This pin should be bypassed to ground with a 1.0-uF ceramic capacitor.", 10 SW (power) "This pin is connected to the switched node of the converter and used for overcurrent sensing as well as gate drive timing. This pin is also the return path from the high-side FET for the floating high-side FET driver. A 1.(See Datasheet)", 11 BOOST (power) "The BOOST voltage is 8-V greater than the input voltage. The peak voltage on BOOST is equal to the SW node voltage plus the voltage present at DBP less the bootstrap diode drop. This drop can be 1.4 V for the internal (See Datasheet)", 12 HDRV (out) "Floating gate drive for the high-side N-channel MOSFET. This pin switches from BOOST (MOSFET on) to SW (MOSFET off).", 13 VDD (power) "Supply voltage for the device.", 14 ILIM (in) "Short circuit protection programming pin. This pin is used to set the overcurrent threshold. An internal current sink from this pin to ground sets a voltage drop across an external resistor connected from this pin to VDD. (See Datasheet)", 15 KFF (in) "A resistor is connected from this pin to VDD programs the amount of input voltage feed-forward. The current fed into this pin is used to control the slope of the PWM ramp and program undervoltage lockout. Nominal voltage at (See Datasheet)", 16 RT "A resistor is connected from this pin to GND to set the switching frequency.", 17 LVBP (out) "4.2-V reference used for internal device logic and analog functions. This pin should be bypassed to GND with a 0.1-uF ceramic capacitor. External loads less than 1 mA and electrically quiet may be applied.", 18 PGD (oc) "This is an open drain output that pulls to ground when soft start is active, or when the FB pin is outside a +/-10% band around the 700 mV reference voltage.", 19 SYNC (in) "Logic input for pulse train to synchronize oscillator.", 20 SA+ (in) "Noninverting input of the remote voltage sense amplifier.", 21 EP (power) "Exposed Thermal Pad"